# Altium footprint library 卫星轴.PcbLib: 5 footprints
Each footprint in its own frame and in the unit in brackets; x right, y up, seen from the top. Pads: shape width x height; smd on the part's side, far side on the other; paste and mask are expansions set on the pad; w line width, h text height; cw(c..) or ccw(c..) is an arc to the next point about the centre after c.
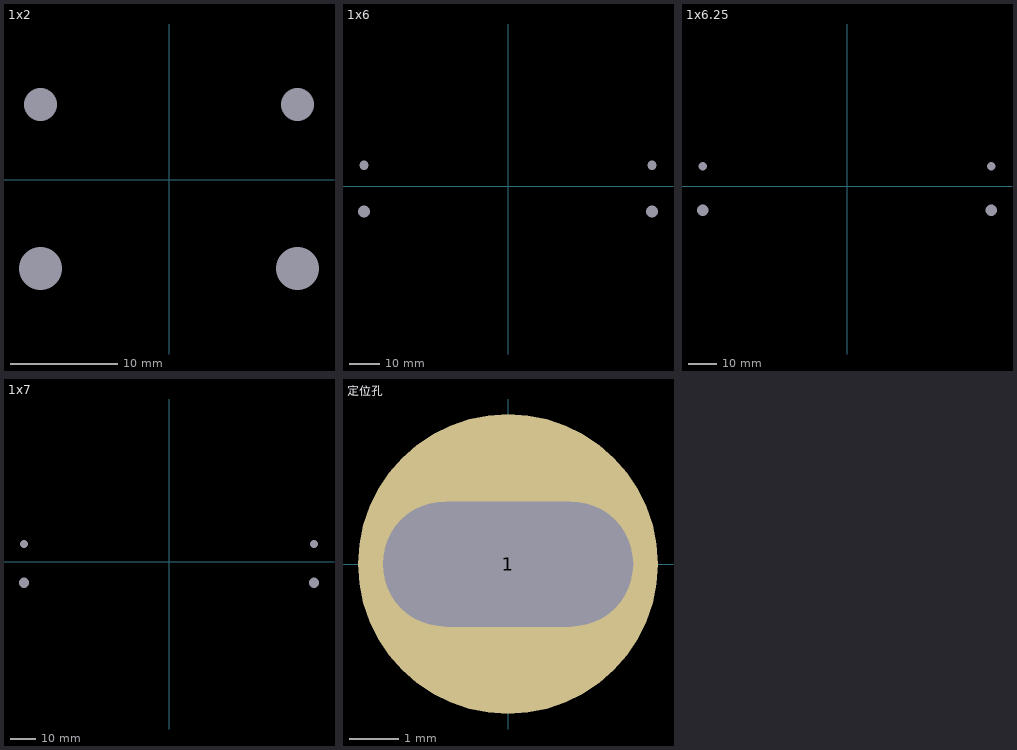
[diagram p0: the footprints below, top view; thin cyan lines are the x and y axes]

## 1x2 [mil] "stab"
pads (4):
  round 0 hole 120: 0(-470,275) 3(470,275)
  round 0 hole 157: 1(-470,-325) 4(470,-325)

## 1x6 [mil] "stab"
pads (4):
  round 0 hole 120: 0(1875,275) 3(-1875,275)
  round 0 hole 157: 1(1875,-325) 4(-1875,-325)

## 1x6.25 [mil] "stab"
pads (4):
  round 0 hole 120: 0(1970,275) 3(-1970,275)
  round 0 hole 157: 1(1970,-325) 4(-1970,-325)

## 1x7 [mil] "stab"
pads (4):
  round 0 hole 120: 0(2250,275) 3(-2250,275)
  round 0 hole 157: 1(2250,-325) 4(-2250,-325)

## 定位孔 [mil]
pads (1):
  round 240 hole 100 slot 200 at 0 deg: 1(0,0)